# EAGLE library part 47346-0001 (library 47346-0001)
CONN RCPT 5POS MICRO USB R/A SMD
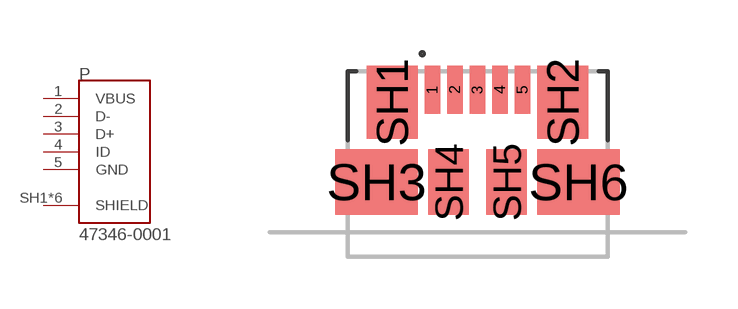
[diagram p0: symbol with the pads of MOLEX_47346-0001; footprint MOLEX_47346-0001]

Designator prefix P

## 47346-0001 (Availability: Unavailable; Description: Micro-USB B Receptacle with Flange, Bottom Mount, SMT, Lead-Free; MF: Molex; MP: 47346-0001; Package: None; Price: None)  [MOLEX_47346-0001]
1  VBUS  pwr
2  D-
3  D+
4  ID  pas
5  GND  pwr
SH1  SHIELD  pas
SH2  SHIELD  pas
SH3  SHIELD  pas
SH4  SHIELD  pas
SH5  SHIELD  pas
SH6  SHIELD  pas

## Footprint MOLEX_47346-0001 (pad centres in mm)
MICRO USB R/A-473460001
smd 0.45 x 1.38: 1 -1.3,2.66; 2 -0.65,2.66; 3 0,2.66; 4 0.65,2.66; 5 1.3,2.66
smd 1.475 x 2.1: SH1 -2.462,2.3; SH2 2.462,2.3
smd 2.375 x 1.9: SH3 -2.913,0; SH6 2.913,0
smd 1.175 x 1.9: SH4 -0.838,0; SH5 0.838,0